# Altium footprint library SMA-2.PcbLib: 1 footprints
Each footprint in its own frame and in the unit in brackets; x right, y up, seen from the top. Pads: shape width x height; smd on the part's side, far side on the other; paste and mask are expansions set on the pad; w line width, h text height; cw(c..) or ccw(c..) is an arc to the next point about the centre after c.
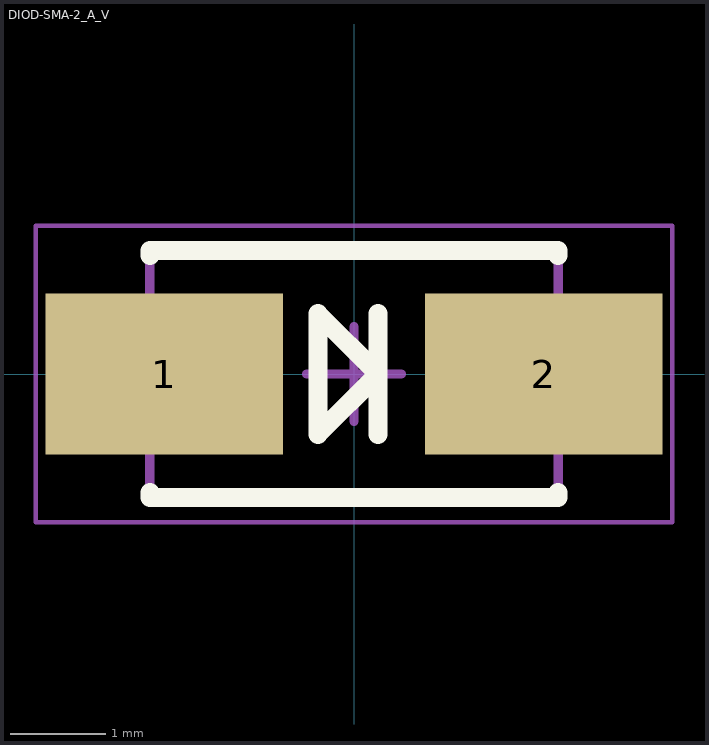
[diagram p0: the footprint, top view; thin cyan lines are the x and y axes]

## DIOD-SMA-2_A_V [mm] "SMA, 2-Leads, Body 4.3x2.605mm"
height 2.4
pads (2):
  rect 2.5x1.7 smd: 1(-2,0) 2(2,0)
Top Overlay:
  lines w0.2: -2.15,-1.302 2.15,-1.302 ; -2.15,-1.302 -2.15,-1.25 ; -2.15,1.25 -2.15,1.302 ; -2.15,1.302 2.15,1.302 ; 0.254,-0.635 0.254,0.635 ; 2.15,-1.302 2.15,-1.25 ; 2.15,1.25 2.15,1.302 ; -0.381,-0.635 -0.381,0.635 0.254,0 -0.381,-0.635
Mechanical 13:
  lines w0.1: -2.15,-1.302 -2.15,1.302 2.15,1.302 2.15,-1.302 -2.15,-1.302
Mechanical 15:
  lines w0.05: -3.35,-1.56 -3.35,1.56 3.35,1.56 3.35,-1.56 -3.35,-1.56
  lines w0.1: -0.5,0 0.5,0 ; 0,-0.5 0,0.5
3D body "DIOM4326X24L.step": height 2.4, standoff 0, extent -2.52,-1.46 2.52,1.46